# EAGLE library part 74HC02_TSSOP14 (library SMORSE_Chao)
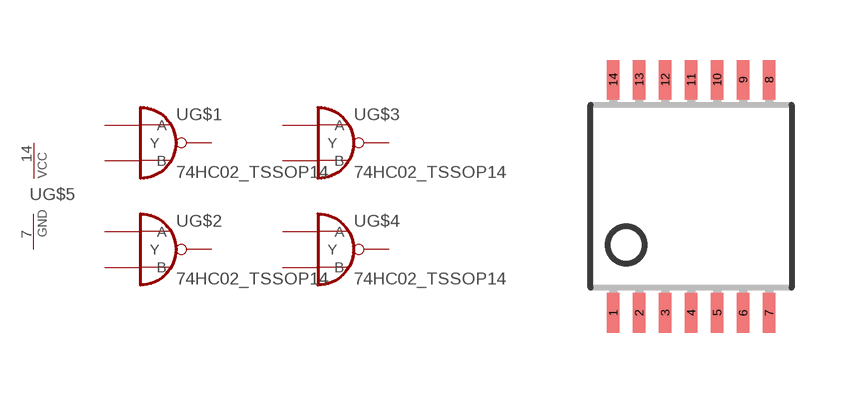
[diagram p5: symbol with the pads of 14TSSOP; footprint 14TSSOP]

Designator prefix -; gates G$1=74HC02 G$2=74HC02 G$3=74HC02 G$4=74HC02 G$5=PWRN

## 74HC02_TSSOP14  [14TSSOP]
1  G$1:Y  out
2  G$1:A  in
3  G$1:B  in
4  G$2:Y  out
5  G$2:A  in
6  G$2:B  in
7  G$5:GND  pwr
8  G$3:A  in
9  G$3:B  in
10  G$3:Y  out
11  G$4:A  in
12  G$4:B  in
13  G$4:Y  out
14  G$5:VCC  pwr

## Footprint 14TSSOP (pad centres in mm)
smd 0.305 x 0.991: 1 -1.95,-2.918; 2 -1.3,-2.918; 3 -0.65,-2.918; 4 0,-2.918; 5 0.65,-2.918; 6 1.3,-2.918; 7 1.95,-2.918; 8 1.95,2.918; 9 1.3,2.918; 10 0.65,2.918; 11 0,2.918; 12 -0.65,2.918; 13 -1.3,2.918; 14 -1.95,2.918